# Altium footprint library CONN-PLS-4-2.54mm.PcbLib: 1 footprints
Each footprint in its own frame and in the unit in brackets; x right, y up, seen from the top. Pads: shape width x height; smd on the part's side, far side on the other; paste and mask are expansions set on the pad; w line width, h text height; cw(c..) or ccw(c..) is an arc to the next point about the centre after c.
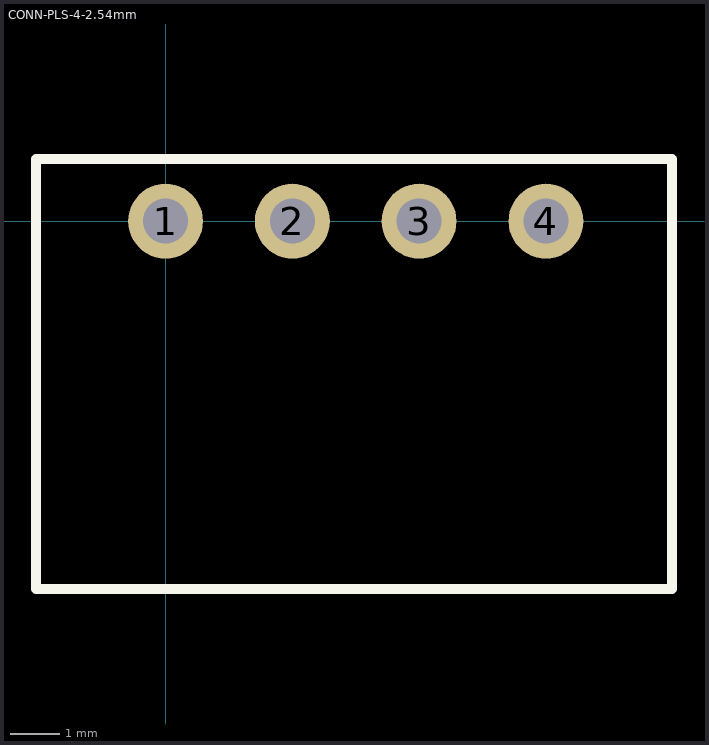
[diagram p0: the footprint, top view; thin cyan lines are the x and y axes]

## CONN-PLS-4-2.54mm [mm]
pads (4):
  round 1.5 hole 0.9: 1(0,0) 2(2.54,0) 3(5.08,0) 4(7.62,0)
Top Overlay:
  lines w0.2: -2.6,-7.375 10.15,-7.375 10.15,1.25 -2.6,1.25 -2.6,-7.375
3D body "User Library-XH2_54-4P-R-1.STEP": height 5.9, standoff -3, extent -2.45,-7.3 10.05,0.3